# EAGLE library part ESP-8285 (library IC-ESP)
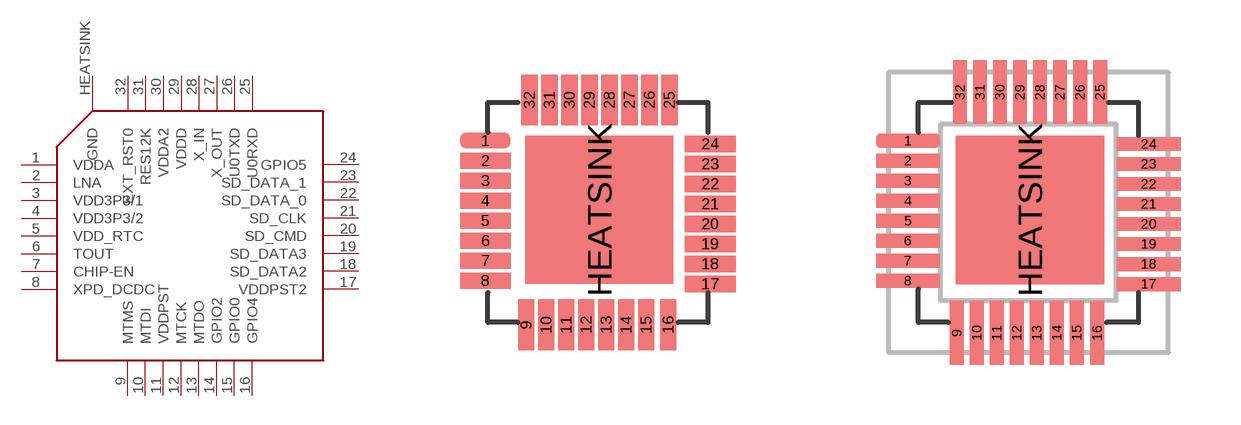
[diagram p18: symbol with the pads of QFN32; footprints QFN32, QFN32-L]

Designator prefix -

## ESP-82858285  [QFN32]
1  VDDA
2  LNA
3  VDD3P3/1
4  VDD3P3/2
5  VDD_RTC
6  TOUT
7  CHIP-EN
8  XPD_DCDC
9  MTMS
10  MTDI
11  VDDPST
12  MTCK
13  MTDO
14  GPIO2
15  GPIO0
16  GPIO4
17  VDDPST2
18  SD_DATA2
19  SD_DATA3
20  SD_CMD
21  SD_CLK
22  SD_DATA_0
23  SD_DATA_1
24  GPIO5
25  U0RXD
26  U0TXD
27  X_OUT
28  X_IN
29  VDDD
30  VDDA2
31  RES12K
32  EXT_RST0
HEATSINK  GND

## ESP-8285  [QFN32-L]
Pads as for QFN32

## Footprint QFN32 (pad centres in mm)
smd 1.27 x 0.406: 1 -2.81,1.79; 2 -2.81,1.29; 3 -2.81,0.79; 4 -2.81,0.29; 5 -2.81,-0.21; 6 -2.81,-0.71; 7 -2.81,-1.21; 8 -2.81,-1.71; 17 2.81,-1.79; 18 2.81,-1.29; 19 2.81,-0.79; 20 2.81,-0.29; 21 2.81,0.21; 22 2.81,0.71; 23 2.81,1.21; 24 2.81,1.71
smd 0.406 x 1.27: 9 -1.79,-2.81; 10 -1.29,-2.81; 11 -0.79,-2.81; 12 -0.29,-2.81; 13 0.21,-2.81; 14 0.71,-2.81; 15 1.21,-2.81; 16 1.76,-2.81; 25 1.79,2.81; 26 1.29,2.81; 27 0.79,2.81; 28 0.29,2.81; 29 -0.21,2.81; 30 -0.71,2.81; 31 -1.21,2.81; 32 -1.71,2.81
smd 3.7 x 3.7: HEATSINK 0.04,0.06

## Footprint QFN32-L (pad centres in mm)
smd 1.6 x 0.35: 1 -3.01,1.79; 2 -3.01,1.29; 3 -3.01,0.79; 4 -3.01,0.29; 5 -3.01,-0.21; 6 -3.01,-0.71; 7 -3.01,-1.21; 8 -3.01,-1.71; 17 3.01,-1.79; 18 3.01,-1.29; 19 3.01,-0.79; 20 3.01,-0.29; 21 3.01,0.21; 22 3.01,0.71; 23 3.01,1.21; 24 3.01,1.71
smd 0.35 x 1.6: 9 -1.79,-3.01; 10 -1.29,-3.01; 11 -0.79,-3.01; 12 -0.29,-3.01; 13 0.21,-3.01; 14 0.71,-3.01; 15 1.21,-3.01; 16 1.72,-3.01; 25 1.79,3.01; 26 1.29,3.01; 27 0.79,3.01; 28 0.29,3.01; 29 -0.21,3.01; 30 -0.71,3.01; 31 -1.21,3.01; 32 -1.71,3.01
smd 3.7 x 3.7: HEATSINK 0.04,0.06